# EAGLE library part IC_UC_PIC12F508 (library dp_devices)
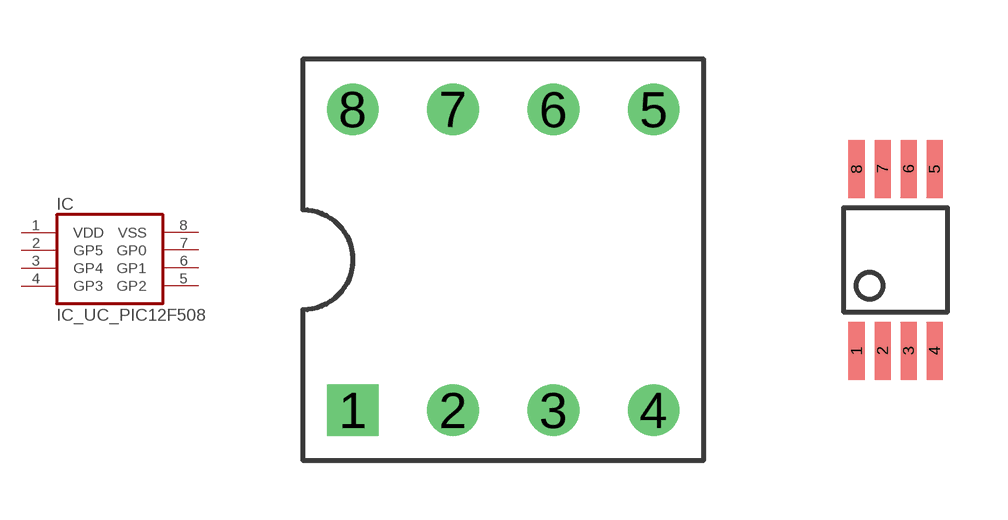
[diagram p70: symbol with the pads of DIP8; footprints DIP8, MSOP8]

Designator prefix IC

## IC_UC_PIC12F508DIP  [DIP8]
1  VDD  pwr
2  GP5
3  GP4
4  GP3
5  GP2
6  GP1
7  GP0
8  VSS  pwr

## IC_UC_PIC12F508MSOP  [MSOP8]
Pads as for DIP8

## IC_UC_PIC12F508SOIC  [SO-8]
Pads as for DIP8

## IC_UC_PIC12F508DFN  [DFN8_3X2]
Pads as for DIP8

## Footprint DIP8 (pad centres in mm)
drill 0.8 square: 1 -3.81,-3.81
drill 0.8 round: 2 -1.27,-3.81; 3 1.27,-3.81; 4 3.81,-3.81; 5 3.81,3.81; 6 1.27,3.81; 7 -1.27,3.81; 8 -3.81,3.81

## Footprint MSOP8 (pad centres in mm)
smd 0.4 x 1.45: 1 -0.975,-2.275; 2 -0.325,-2.275; 3 0.325,-2.275; 4 0.975,-2.275; 5 0.975,2.275; 6 0.325,2.275; 7 -0.325,2.275; 8 -0.975,2.275

## Footprint SO-8 (pad centres in mm)
smd 0.6 x 1.55: 1 -1.905,-2.69; 2 -0.635,-2.69; 3 0.635,-2.69; 4 1.905,-2.69; 5 1.905,2.71; 6 0.635,2.71; 7 -0.635,2.71; 8 -1.905,2.71

## Footprint DFN8_3X2 (pad centres in mm)
smd 0.3 x 0.7: 1 -0.75,-1.5; 2 -0.25,-1.5; 3 0.25,-1.5; 4 0.75,-1.5; 5 0.75,1.5; 6 0.25,1.5; 7 -0.25,1.5; 8 -0.75,1.5
smd 1.75 x 1.45: PAD 0,0